# Altium footprint library SMIOT_Lib_FootPrint.PcbLib: 34 footprints (part 2 of 3)
Each footprint in its own frame and in the unit in brackets; x right, y up, seen from the top. Pads: shape width x height; smd on the part's side, far side on the other; paste and mask are expansions set on the pad; w line width, h text height; cw(c..) or ccw(c..) is an arc to the next point about the centre after c.
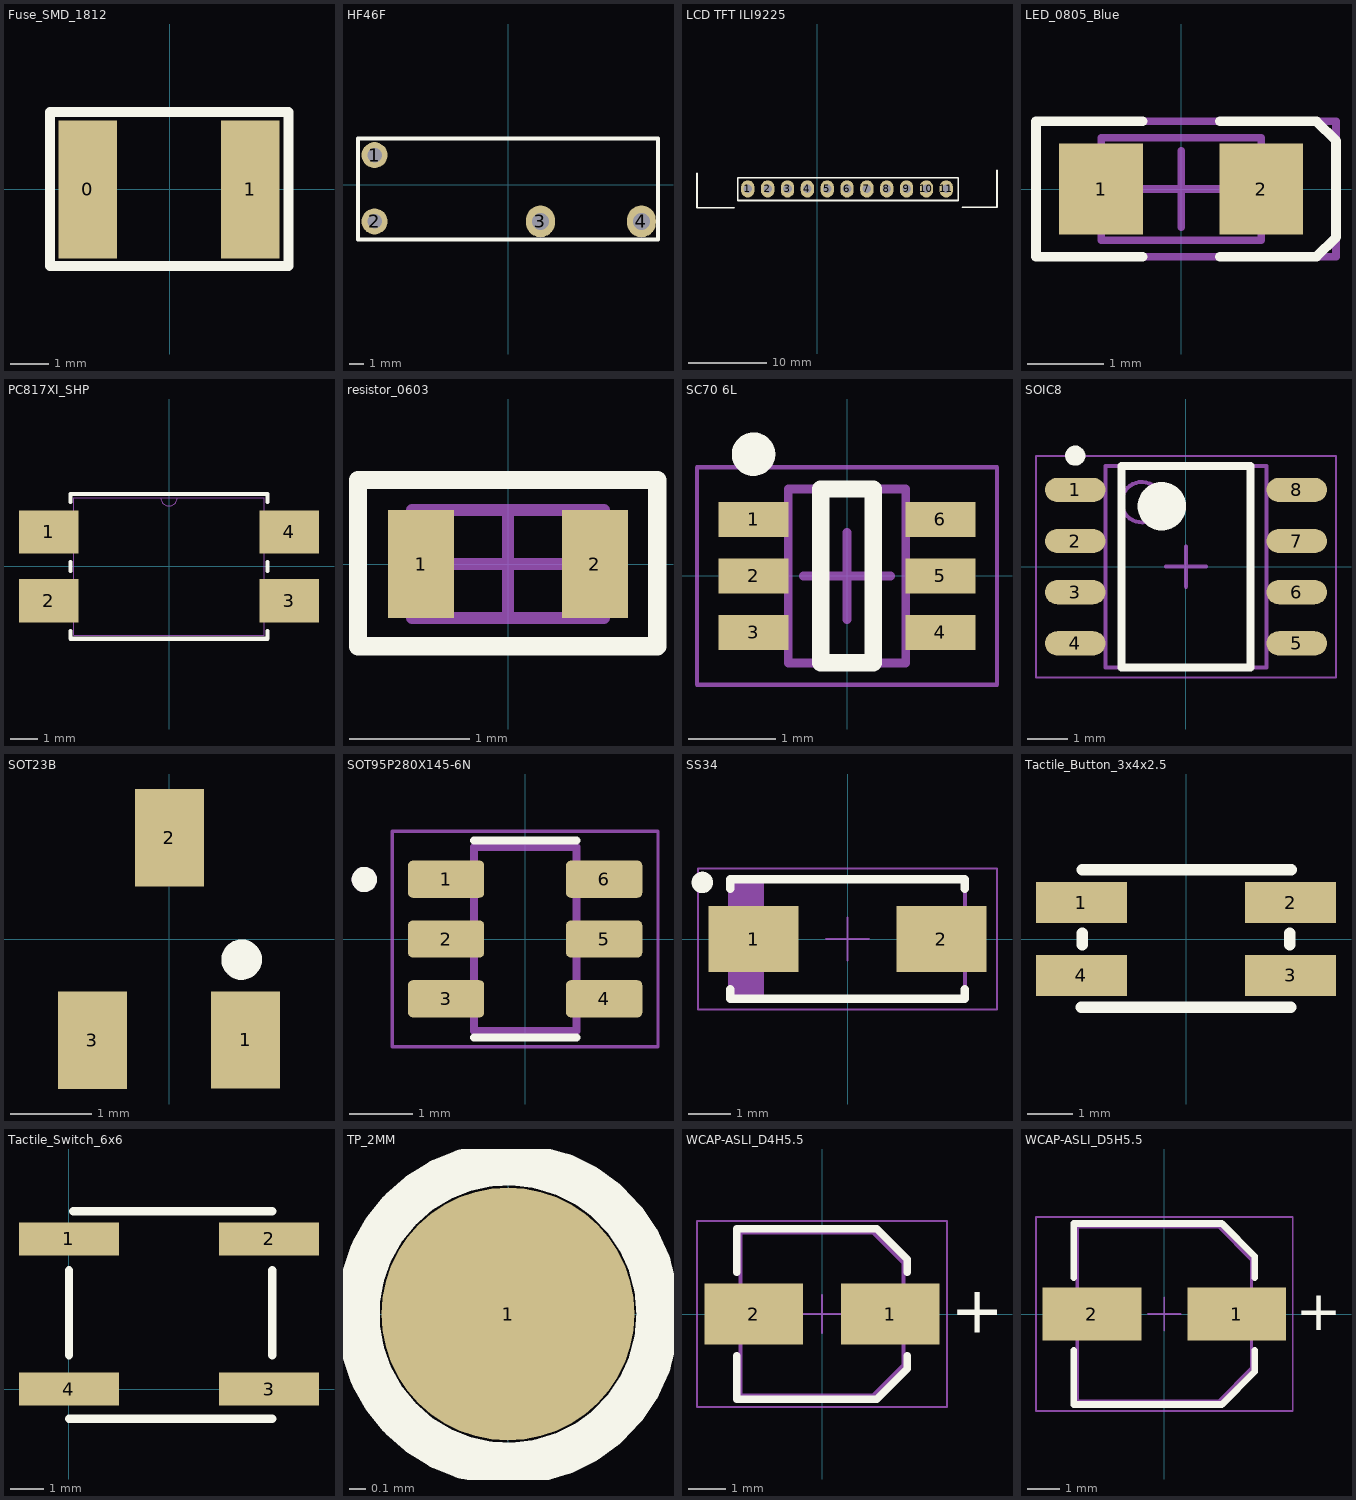
[diagram p1: the footprints below, top view; thin cyan lines are the x and y axes]

## Fuse_SMD_1812 [mil] "Fuse SMD, size 1812"
pads (2):
  rect 60x140 smd: 0(-83.41,0) 1(82,0)
Top Overlay:
  lines w10: -122,-78 -122,79 121,79 121,-78 -122,-78
3D body "miniSMDC150F.STEP": height 17.9, standoff -1, extent -93.11,-67.13 93.11,67.13

## HF46F [mm]
pads (4):
  round 1.8 hole 1: 1(-9.25,2.05) 2(-9.25,-2.55)
  oval 2x2.2 hole 1.2: 3(2.25,-2.55) 4(9.25,-2.55)
Top Overlay:
  lines w0.254: -10.4,-3.8 -10.4,3.2 10.4,3.2 10.4,-3.8 -10.4,-3.8
3D body "hf46f.stp": height 14.79, standoff -3.92, extent -9.819,-3.937 10.581,3.063

## LCD TFT ILI9225 [mm]
pads (11):
  oval 1.7x2.2 hole 1.1 mask+0.102: 1(-8.886,-57.391) 2(-6.346,-57.391) 3(-3.806,-57.391) 4(-1.266,-57.391) 5(1.274,-57.391) 6(3.814,-57.391) 7(6.354,-57.391) 8(8.894,-57.391) 9(11.434,-57.391) 10(13.974,-57.391) 11(16.514,-57.391)
Top Overlay:
  lines w0.203: -15.392,-55.372 -15.392,-59.741 -15.392,-59.817 -10.617,-59.817 ; 18.567,-59.766 22.936,-59.766 ; 23.012,-59.766 23.012,-54.991 ; -10.16,-58.877 18.034,-58.877 18.034,-55.956 -10.16,-55.956 -10.16,-58.877
3D body "female_header_a-bl254-eg-g11d.stp": height 8.5, standoff -3.2, extent -10.158,-58.649 18.032,-56.149
3D body "2.0 LCD TFT Module - Without Glass.stp": height 14.67, standoff 2.85, extent -15.403,-59.778 23.052,2.757

## LED_0805_Blue [mm]
pads (2):
  rect 1.1x1.2 smd: 1(-1.05,0) 2(1.05,0)
Top Overlay:
  lines w0.127: -0.508,-0.889 -1.905,-0.889 -1.905,0.889 -0.508,0.889 ; 0.508,-0.889 1.778,-0.889 2.032,-0.635 2.032,0.635 1.778,0.889 0.508,0.889
Mechanical 13:
  lines w0.1: -1.05,-0.675 -1.05,0.675 1.05,0.675 1.05,-0.675 -1.05,-0.675
Mechanical 15:
  lines w0.1: -0.5,0 0.5,0 ; 0,-0.5 0,0.5 ; -1.905,-0.889 -1.905,0.889 2.032,0.889 2.032,-0.889 -1.905,-0.889
3D body "WL-SMCW_0805_LED.stp": height 0.68, standoff -0.02, extent -1,-0.625 1,0.625

## PC817XI_SHP [mm]
pads (4):
  rect 2.2x1.6 smd paste+0 mask+0: 1(-4.432,1.27) 2(-4.432,-1.27) 3(4.432,-1.27) 4(4.432,1.27)
Top Overlay:
  lines w0.152: -3.632,-2.377 -3.632,-2.667 3.632,-2.667 3.632,-2.377 ; -3.632,-0.163 -3.632,0.163 ; -3.632,2.377 -3.632,2.667 3.632,2.667 3.632,2.377 ; 3.632,-0.163 3.632,0.163
Mechanical 13:
  lines w0: -0.305,2.54 ccw(c0,2.54) 0.305,2.54
  lines w0.025: -5.004,-2.019 -5.004,-0.521 -3.505,-0.521 -3.505,-2.019 -5.004,-2.019 ; -5.004,0.521 -5.004,2.019 -3.505,2.019 -3.505,0.521 -5.004,0.521 ; -3.505,-2.54 3.505,-2.54 3.505,2.54 -3.505,2.54 -3.505,-2.54 ; 3.505,-2.019 3.505,-0.521 5.004,-0.521 5.004,-2.019 3.505,-2.019 ; 3.505,0.521 3.505,2.019 5.004,2.019 5.004,0.521 3.505,0.521
3D body "PC817XI_SHP.step": height 4.6, standoff 0, extent -5.004,-2.54 5.004,2.54

## resistor_0603 [mm]
pads (2):
  rect 0.55x0.9 smd: 1(-0.725,0) 2(0.725,0)
Top Overlay:
  lines w0.152: -1.25,-0.686 1.245,-0.686 1.245,0.7 -1.25,0.7 -1.25,-0.686
Mechanical 13:
  lines w0.1: -0.8,-0.45 0.8,-0.45 0.8,0.45 -0.8,0.45 -0.8,-0.45
Mechanical 15:
  lines w0.05: -1.25,-0.7 1.25,-0.7 1.25,0.7 -1.25,0.7 -1.25,-0.7
  lines w0.1: -0.45,0 0.45,0 ; 0,-0.45 0,0.45
3D body: height 0.5, standoff 0, extent 0.5,-0.45 0.8,0.45
3D body: height 0.5, standoff 0, extent -0.8,-0.45 -0.5,0.45
3D body: height 0.5, standoff 0, extent -0.5,-0.45 0.5,0.45

## SC70 6L [mm]
pads (6):
  rect 0.8x0.4 smd: 1(-1.075,0.65) 2(-1.075,0) 3(-1.075,-0.65) 4(1.075,-0.65) 5(1.075,0) 6(1.075,0.65)
Top Overlay:
  circle w0.25: c-1.075,1.4 r0.125
  lines w0.2: -0.3,-1 -0.3,1 0.3,1 0.3,-1 -0.3,-1
Top Courtyard:
  lines w0.05: -1.725,-1.25 1.725,-1.25 1.725,1.25 -1.725,1.25 -1.725,-1.25
  lines w0.1: -0.5,0 0.5,0 ; 0,-0.5 0,0.5
Top Assembly:
  lines w0.1: -0.675,-1 0.675,-1 0.675,1 -0.675,1 -0.675,-1
3D body "SOT65P210X110-6N.step": height 1.1, standoff 0, extent -1.05,-1 1.05,1

## SOIC8 [mm]
pads (8):
  oval 1.5x0.6 smd: 1(-2.75,1.905) 2(-2.75,0.635) 3(-2.75,-0.635) 4(-2.75,-1.905) 5(2.75,-1.905) 6(2.75,-0.635) 7(2.75,0.635) 8(2.75,1.905)
Top Overlay:
  circle w0.25: c-2.75,2.755 r0.125
  circle w0.6: c-0.6,1.5 r0.3
  lines w0.2: -1.6,-2.5 -1.6,2.5 1.6,2.5 1.6,-2.5 -1.6,-2.5
Top Courtyard:
  lines w0.05: -3.725,-2.75 -3.725,2.75 3.725,2.75 3.725,-2.75 -3.725,-2.75
  lines w0.1: -0.5,0 0.5,0 ; 0,-0.5 0,0.5
Top Assembly:
  circle w0.1: c-1.1,1.6 r0.5
  lines w0.1: -2,-2.5 -2,2.5 2,2.5 2,-2.5 -2,-2.5
3D body "SOIC127P600X175_HS-9N.step": height 1.75, standoff 0, extent -3.01,-2.5 3.01,2.5

## SOT23B [mm]
pads (3):
  rect 0.85x1.2 smd: 1(0.94,-1.245) 2(0,1.25) 3(-0.95,-1.25)
Top Overlay:
  circle w0.25: c0.891,-0.254 r0.125
3D body "SW3DPS-SOT-23-DEFAULT.STEP": height 1.06, standoff -0.04, extent -1.5,-1.301 1.5,1.199

## SOT95P280X145-6N [mm]
pads (6):
  rrect25% 1.21x0.59 smd: 1(-1.255,0.95) 2(-1.255,0) 3(-1.255,-0.95) 4(1.255,-0.95) 5(1.255,0) 6(1.255,0.95)
Top Overlay:
  circle w0.2: c-2.555,0.945 r0.1
  lines w0.127: -0.813,-1.565 0.813,-1.565 ; -0.813,1.565 0.813,1.565
Mechanical 13:
  circle w0.2: c-2.555,0.945 r0.1
  lines w0.127: -0.813,-1.462 0.813,-1.462 0.813,1.462 -0.813,1.462 -0.813,-1.462
Mechanical 15:
  lines w0.05: -2.11,-1.713 -2.11,1.713 2.11,1.713 2.11,-1.713 -2.11,-1.713
3D body "step_temp.STEP": height 0.4, standoff -1.05, extent -1.4,-1.462 1.4,1.462

## SS34 [mm]
pads (2):
  rect 2.1x1.55 smd: 1(-2.2,0) 2(2.2,0)
Top Overlay:
  circle w0.25: c-3.4,1.325 r0.125
  lines w0.2: -2.75,-1.175 -2.75,-1.4 2.75,-1.4 2.75,-1.175 ; -2.75,1.175 -2.75,1.4 2.75,1.4 2.75,1.175
Bottom 3D Body:
  lines w0.1: -2.66,-1.4 -2.66,1.4 ; -2.61,-1.4 -2.61,1.4 ; -2.535,-1.4 -2.535,1.4 ; -2.46,-1.4 -2.46,1.4 ; -2.385,-1.4 -2.385,1.4 ; -2.31,-1.4 -2.31,1.4 ; -2.235,-1.4 -2.235,1.4 ; -2.16,-1.4 -2.16,1.4 ; -2.085,-1.4 -2.085,1.4 ; -2.01,-1.4 -2.01,1.4 ; -2.75,-1.4 2.75,-1.4 2.75,1.4 -2.75,1.4 -2.75,-1.4
Mechanical 15:
  lines w0.05: -0.5,0 0.5,0 ; 0,-0.5 0,0.5 ; -3.5,-1.65 3.5,-1.65 3.5,1.65 -3.5,1.65 -3.5,-1.65
3D body "DIOM5326X230N.stp": height 2.3, standoff 0, extent -2.75,-1.422 2.75,1.378

## Tactile_Button_3x4x2.5 [mm] "Tactile button, 4 Pin, SMD"
pads (4):
  rect 2x0.9 smd: 1(-2.3,0.8) 2(2.3,0.8) 3(2.3,-0.8) 4(-2.3,-0.8)
Top Overlay:
  lines w0.254: -2.3,-1.503 2.3,-1.503 ; -2.286,-0.127 -2.286,0.127 ; -2.286,1.524 2.314,1.524 ; 2.286,-0.127 2.286,0.127

## Tactile_Switch_6x6 [mm]
pads (4):
  rect 3x1 smd: 1(0,4.5) 2(6,4.5) 3(6,0) 4(0,0)
Top Overlay:
  lines w0.254: 0,-0.889 6.096,-0.889 ; 0,1.016 0,3.556 ; 0.127,5.334 6.096,5.334 ; 6.096,1.016 6.096,3.556
3D body "SW-DTSM-66N-V.stp": height 13, standoff 0, extent -1.503,-0.79 7.497,5.21

## TP_2MM [mm] "Test point, 2mm."
pads (1):
  round 1.5 smd: 1(0,0)
Top Overlay:
  circle w0.254: c0,0 r0.889

## WCAP-ASLI_D4H5.5 [mm] "Aluminium Electrolytic V-Chip SMT Capacitors, 4x5.5mm"
height 5.5
pads (2):
  rect 2.6x1.6 smd: 1(1.8,0) 2(-1.8,0)
Top Overlay:
  lines w0.2: -2.25,-1.1 -2.25,-2.25 1.45,-2.25 2.25,-1.45 2.25,-1.1 ; -2.25,1.1 -2.25,2.25 1.45,2.25 2.25,1.45 2.25,1.1
  text "+" at 3.4,-0.5 h1.22
Top Courtyard:
  lines w0.05: -0.5,0 0.5,0 ; 0,-0.5 0,0.5 ; -3.3,-2.45 3.3,-2.45 3.3,2.45 -3.3,2.45 -3.3,-2.45
Top Designator:
  text ".Designator" at -5.998,-0.4 h1.2
Top 3D Body:
  lines w0.1: -2.15,-2.15 1.35,-2.15 2.15,-1.35 2.15,1.35 1.35,2.15 -2.15,2.15 -2.15,-2.15
Top Component Outline:
  lines w0.1: -2.15,-2.15 1.35,-2.15 2.15,-1.35 2.15,1.35 1.35,2.15 -2.15,2.15 -2.15,-2.15
3D body "4x5.5x1.stp": height 5.5, standoff 0, extent -2.5,-2.15 2.5,2.15

## WCAP-ASLI_D5H5.5 [mm] "Aluminium Electrolytic V-Chip SMT Capacitors, 5x5.5mm"
height 5.5
pads (2):
  rect 3x1.6 smd: 1(2.2,0) 2(-2.2,0)
Top Overlay:
  lines w0.2: -2.75,-1.1 -2.75,-2.75 1.75,-2.75 2.75,-1.75 2.75,-1.1 ; -2.75,1.1 -2.75,2.75 1.75,2.75 2.75,1.75 2.75,1.1
  text "+" at 4,-0.5 h1.22
Top Courtyard:
  lines w0.05: -0.5,0 0.5,0 ; 0,-0.5 0,0.5 ; -3.9,-2.95 -3.9,2.95 3.9,2.95 3.9,-2.95 -3.9,-2.95
Top Designator:
  text ".Designator" at -7.498,-0.5 h1.5
Top 3D Body:
  lines w0.1: -2.65,-2.65 1.65,-2.65 2.65,-1.65 2.65,1.65 1.65,2.65 -2.65,2.65 -2.65,-2.65
Top Component Outline:
  lines w0.1: -2.65,-2.65 1.65,-2.65 2.65,-1.65 2.65,1.65 1.65,2.65 -2.65,2.65 -2.65,-2.65
3D body "5x5.5x1.4.stp": height 5.5, standoff 0, extent -3,-2.65 3,2.65